# Altium schematic symbol library mcp2221a_ml.SchLib: 1 symbol
Pins are listed as number, name and electrical type; pins without a type are passive.

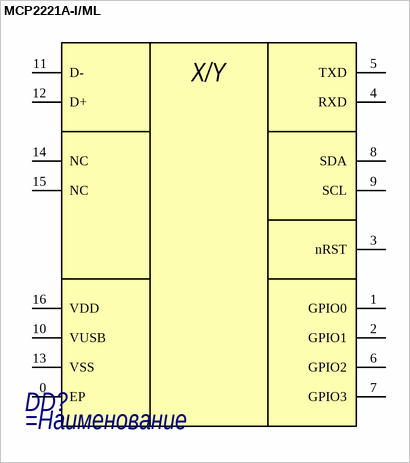
[diagram p0: symbol MCP2221A-I/ML]

## MCP2221A-I/ML
designator DD?
=Описание
pins: 0 EP, 1 GPIO0, 2 GPIO1, 3 nRST, 4 RXD, 5 TXD, 6 GPIO2, 7 GPIO3, 8 SDA, 9 SCL, 10 VUSB, 11 D-, 12 D+, 13 VSS, 14 NC, 15 NC, 16 VDD
text: X/Y